# Altium footprint library PCB_Altium_Library_Manuel.PcbLib: 53 footprints (part 4 of 4)
Each footprint in its own frame and in the unit in brackets; x right, y up, seen from the top. Pads: shape width x height; smd on the part's side, far side on the other; paste and mask are expansions set on the pad; w line width, h text height; cw(c..) or ccw(c..) is an arc to the next point about the centre after c.
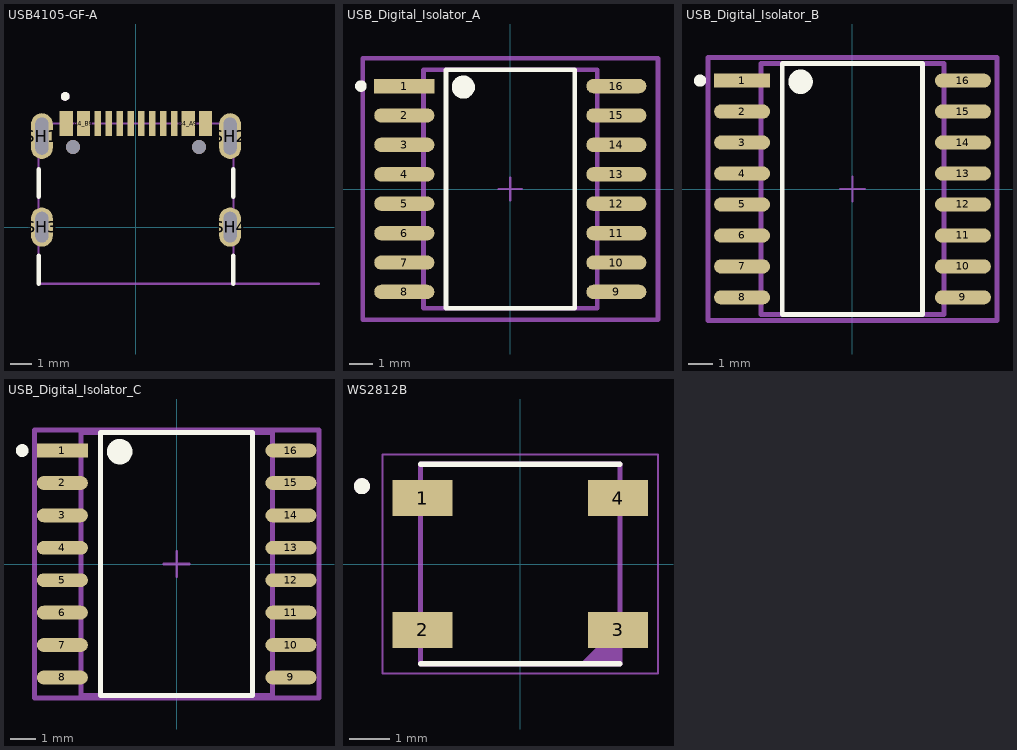
[diagram p3: the footprints below, top view; thin cyan lines are the x and y axes]

## USB4105-GF-A [mm]
pads (18):
  rect 0.6x1.15 smd mask+0.05: A1_B12(-3.2,4.755) A4_B9(-2.4,4.755) B1_A12(3.2,4.755) B4_A9(2.4,4.755)
  rect 0.3x1.15 smd mask+0.05: A5(-1.25,4.755) A6(-0.25,4.755) A7(0.25,4.755) A8(1.25,4.755) B5(1.75,4.755) B6(0.75,4.755) B7(-0.75,4.755) B8(-1.75,4.755)
  oval 1x2.1 hole 0.6 slot 1.7 at 90 deg: SH1(-4.32,4.18) SH2(4.32,4.18)
  oval 1x1.8 hole 0.6 slot 1.4 at 90 deg: SH3(-4.32,0) SH4(4.32,0)
  round 0.65 hole 0.65 unplated: ""(-2.89,3.68) ""(2.89,3.68)
Top Overlay:
  circle w0.2: c-3.25,6 r0.1
  lines w0.2: -4.47,-2.6 -4.47,-1.32 ; -4.47,1.4 -4.47,2.65 ; 4.47,-2.6 4.47,-1.32 ; 4.47,1.4 4.47,2.65
Mechanical 13:
  circle w0.2: c-3.25,6 r0.1
  lines w0.1: 8.4,-2.6 4.47,-2.6 ; 4.47,-2.6 -4.47,-2.6 -4.47,4.75 4.47,4.75 4.47,-2.6
  text "PCB EDGE" at 5.4,-2.5 h0.41
3D body "USB4105-GF-A--3DModel-STEP-510211.STEP": height 3.31, standoff -1.1, extent -4.47,-2.6 4.47,5.11

## USB_Digital_Isolator_A [mm] "ADUM3160BRWZ, DGT ISOL 2500VRMS 2CH USB 16SOIC."
pads (16):
  rect 2.598x0.622 smd paste+0 mask+0: 1(-4.578,4.445)
  rrect100% 2.598x0.622 smd paste+0 mask+0: 2(-4.578,3.175) 3(-4.578,1.905) 4(-4.578,0.635) 5(-4.578,-0.635) 6(-4.578,-1.905) 7(-4.578,-3.175) 8(-4.578,-4.445) 9(4.578,-4.445) 10(4.578,-3.175) 11(4.578,-1.905) 12(4.578,-0.635) 13(4.578,0.635) 14(4.578,1.905) 15(4.578,3.175) 16(4.578,4.445)
Top Overlay:
  circle w0.25: c-6.452,4.445 r0.125
  circle w0.5: c-2.029,4.4 r0.25
  lines w0.2: -2.779,-5.15 -2.779,5.15 2.779,5.15 2.779,-5.15 -2.779,-5.15
Top 3D Body:
  lines w0.2: -3.75,-5.15 -3.75,5.15 3.75,5.15 3.75,-5.15 -3.75,-5.15
Top Courtyard:
  lines w0.2: -6.377,-5.65 -6.377,5.65 6.377,5.65 6.377,-5.65 -6.377,-5.65
Top Assembly:
  lines w0.2: -6.377,-5.65 -6.377,5.65 6.377,5.65 6.377,-5.65 -6.377,-5.65
  text ".Designator" at 0,0.187 h1
Top Component Center:
  lines w0.1: -0.5,0 0.5,0 ; 0,-0.5 0,0.5
3D body "IC_Analog_Devices_ADM2486BRWZ_eec.STEP": height 0.25, standoff 0, extent -6.377,-5.65 6.377,5.65

## USB_Digital_Isolator_B [mm] "ADUM3160BRWZ, DGT ISOL 2500VRMS 2CH USB 16SOIC."
pads (16):
  rect 2.298x0.582 smd paste+0 mask+0: 1(-4.528,4.445)
  rrect100% 2.298x0.582 smd paste+0 mask+0: 2(-4.528,3.175) 3(-4.528,1.905) 4(-4.528,0.635) 5(-4.528,-0.635) 6(-4.528,-1.905) 7(-4.528,-3.175) 8(-4.528,-4.445) 9(4.528,-4.445) 10(4.528,-3.175) 11(4.528,-1.905) 12(4.528,-0.635) 13(4.528,0.635) 14(4.528,1.905) 15(4.528,3.175) 16(4.528,4.445)
Top Overlay:
  circle w0.5: c-2.129,4.4 r0.25
  circle w0.25: c-6.252,4.445 r0.125
  lines w0.2: -2.879,-5.15 2.879,-5.15 2.879,5.15 -2.879,5.15 -2.879,-5.15
Top 3D Body:
  lines w0.2: -3.75,-5.15 3.75,-5.15 3.75,5.15 -3.75,5.15 -3.75,-5.15
Board:
  lines w0.2: -5.927,-5.4 5.927,-5.4 5.927,5.4 -5.927,5.4 -5.927,-5.4
Top Assembly:
  lines w0.2: -5.927,-5.4 5.927,-5.4 5.927,5.4 -5.927,5.4 -5.927,-5.4
  text ".Designator" at 0,0.187 h1
Top Component Center:
  lines w0.1: -0.5,0 0.5,0 ; 0,-0.5 0,0.5
3D body "IC_Analog_Devices_ADM2486BRWZ_eec.STEP": height 0.25, standoff 0, extent -5.927,-5.4 5.927,5.4

## USB_Digital_Isolator_C [mm] "ADUM3160BRWZ, DGT ISOL 2500VRMS 2CH USB 16SOIC."
pads (16):
  rect 1.998x0.542 smd paste+0 mask+0: 1(-4.478,4.445)
  rrect100% 1.998x0.542 smd paste+0 mask+0: 2(-4.478,3.175) 3(-4.478,1.905) 4(-4.478,0.635) 5(-4.478,-0.635) 6(-4.478,-1.905) 7(-4.478,-3.175) 8(-4.478,-4.445) 9(4.478,-4.445) 10(4.478,-3.175) 11(4.478,-1.905) 12(4.478,-0.635) 13(4.478,0.635) 14(4.478,1.905) 15(4.478,3.175) 16(4.478,4.445)
Top Overlay:
  circle w0.25: c-6.052,4.445 r0.125
  circle w0.5: c-2.229,4.4 r0.25
  lines w0.2: -2.979,-5.15 -2.979,5.15 2.979,5.15 2.979,-5.15 -2.979,-5.15
Top 3D Body:
  lines w0.2: -3.75,-5.15 -3.75,5.15 3.75,5.15 3.75,-5.15 -3.75,-5.15
Board:
  lines w0.2: -5.577,-5.25 -5.577,5.25 5.577,5.25 5.577,-5.25 -5.577,-5.25
Top Assembly:
  lines w0.2: -5.577,-5.25 -5.577,5.25 5.577,5.25 5.577,-5.25 -5.577,-5.25
  text ".Designator" at 0,0.187 h1
Top Component Center:
  lines w0.1: -0.5,0 0.5,0 ; 0,-0.5 0,0.5
3D body "IC_Analog_Devices_ADM2486BRWZ_eec.STEP": height 0.25, standoff 0, extent -5.577,-5.25 5.577,5.25

## WS2812B [mm]
pads (4):
  rect 1.5x0.9 smd: 1(-2.45,1.65) 2(-2.45,-1.65) 3(2.45,-1.65) 4(2.45,1.65)
Top Overlay:
  circle w0.2: c-3.97,1.95 r0.1
  lines w0.127: -2.5,-2.5 2.5,-2.5 ; -2.5,2.5 2.5,2.5
Mechanical 13:
  circle w0.2: c-3.97,1.95 r0.1
  region: 2.5,-2.5 1.5,-2.5 2.5,-1.5
  lines w0.127: -2.5,-2.5 2.5,-2.5 2.5,2.5 -2.5,2.5 -2.5,-2.5
Mechanical 15:
  lines w0.05: -3.45,-2.75 -3.45,2.75 3.45,2.75 3.45,-2.75 -3.45,-2.75
3D body "WS2812B--3DModel-STEP-55780.STEP": height 1.56, standoff -0.01, extent -2.7,-2.5 2.7,2.5